# Altium footprint library Custom_Parts.PcbLib: 2 footprints
Each footprint in its own frame and in the unit in brackets; x right, y up, seen from the top. Pads: shape width x height; smd on the part's side, far side on the other; paste and mask are expansions set on the pad; w line width, h text height; cw(c..) or ccw(c..) is an arc to the next point about the centre after c.
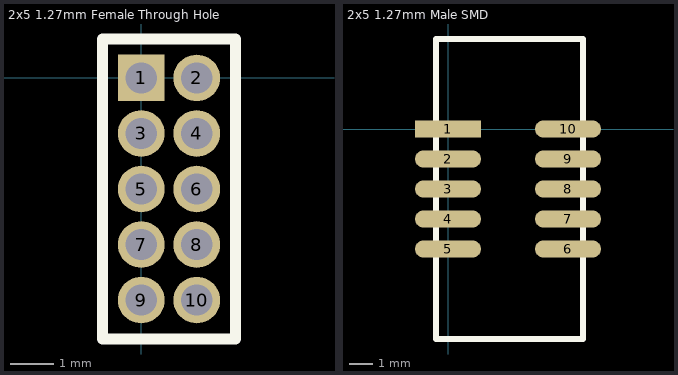
[diagram p0: the footprints below, top view; thin cyan lines are the x and y axes]

## 2x5 1.27mm Female Through Hole [mil]
pads (10):
  rect 42x42 hole 28: 1(0,0)
  round 42 hole 28: 2(50,0) 3(0,-50) 4(50,-50) 5(0,-100) 6(50,-100) 7(0,-150) 8(50,-150) 9(0,-200) 10(50,-200)
Top Overlay:
  lines w10: -35,-235 85,-235 85,35 -35,35 -35,-235
3D body: height 177.17, standoff -102.36, extent -35,-225 83.11,25

## 2x5 1.27mm Male SMD [mil]
pads (10):
  rect 110x29 smd: 1(0,0)
  oval 110x29 smd: 2(0,-50) 3(0,-100) 4(0,-150) 5(0,-200) 6(200,-200) 7(200,-150) 8(200,-100) 9(200,-50) 10(200,0)
Top Overlay:
  lines w10: -20,-350 225,-350 225,150 -20,150 -20,120.31 -20,60.94 -20,31.25 -20,-206.25 -20,-350
3D body: height 215, standoff 0, extent -15.16,-349.99 225.16,150.01